# EAGLE library part RESISTOR_NETWORK_4_* (library HyTechDevices - Copy)
Resistor Network w/ 4 Indepedent Resistors Yageo TC Series <https://www.yageo.com/upload/media/product/productsearch/datasheet/rchip/PYu-YC_TC_group_51_RoHS_L_9.pdf>
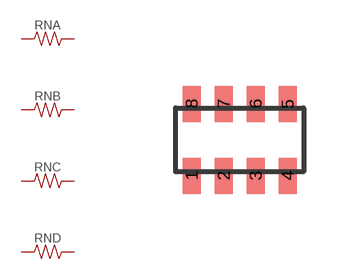
[diagram p36: symbol with the pads of YC/TC164; footprint YC/TC164]

Designator prefix RN; gates A=RESISTOR B=RESISTOR C=RESISTOR D=RESISTOR

## RESISTOR_NETWORK_4_, RESISTOR_NETWORK_4_0 (RESISTANCE: 0), RESISTOR_NETWORK_4_100 (RESISTANCE: 100), RESISTOR_NETWORK_4_100K (RESISTANCE: 100k), RESISTOR_NETWORK_4_10K (RESISTANCE: 10k), RESISTOR_NETWORK_4_12K (RESISTANCE: 12k), RESISTOR_NETWORK_4_14K, RESISTOR_NETWORK_4_158, RESISTOR_NETWORK_4_1K (RESISTANCE: 1k), RESISTOR_NETWORK_4_26.7K, RESISTOR_NETWORK_4_2K (RESISTANCE: 2k), RESISTOR_NETWORK_4_43K (RESISTANCE: 43k)  [YC/TC164]
1  A:1  pas
2  B:1  pas
3  C:1  pas
4  D:1  pas
5  D:2  pas
6  C:2  pas
7  B:2  pas
8  A:2  pas

## Footprint YC/TC164 (pad centres in mm)
YC/TC164 Landing Pattern <http://new-web.yageo.com/exep/pages/download/literatures/PYu-R_Mount_10.pdf> Size <https://www.yageo.com/upload/media/product/productsearch/datasheet/rchip/PYu-YC_TC_group_51_RoHS_L_9.pdf>
smd 0.45 x 0.9: 1 -1.2,-0.9; 2 -0.4,-0.9; 3 0.4,-0.9; 4 1.2,-0.9; 5 1.2,0.9; 6 0.4,0.9; 7 -0.4,0.9; 8 -1.2,0.9